# Altium schematic symbol library Conn_8pin.SchLib: 1 symbol
Pins are listed as number, name and electrical type; pins without a type are passive.

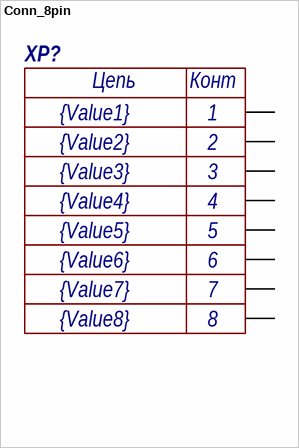
[diagram p0: symbol Conn_8pin]

## Conn_8pin
designator XP?  Value1: {Value1}  Value2: {Value2}  Value3: {Value3}  Value4: {Value4}  Value5: {Value5}  Value6: {Value6}  Value7: {Value7}  Value8: {Value8}
pins: 1, 2, 3, 4, 5, 6, 7, 8
text: Цепь; Конт